# EAGLE library part 691127700006B (library WR-TBL Wire Protector)
WR-TBL Serie 127 B - 5.00 mm Vertical Entry w. stamping clamp KIND PROPERTIES Pitch 5 mm MATERIAL PROPERTIES Insulator Material PA66 Insulator Flammability Rating UL94 V-0 Insulator Color Green Contact Material Steel Contact Plating Zinc Terminal Screw Material Steel Terminal Screw Plating Zinc Wire Guard Material Steel over Zinc GENERAL INFORMATION Operating Temperature -40 up to +105 °C Compliance Lead free / RoHS ELECTRICAL PROPERTIES IR cULus 20 A Working Voltage [cULus] 300 V (AC) Withstanding Voltage [cULus] 2000 V (AC) Contact Resistance [cULus] 20 mΩ MECHANICAL PROPERTIES Wire Strip Length 9 (mm) Screw M4 Solid Wire Section (AWG) 30 to 12 (AWG) Solid Wire Section (Metric) 0.05 to 3.31 (mm²) Stranded Wire Section (AWG) 30 to 12 (AWG) Stranded Wire Section (Metric) 0.05 to 3.31 (mm²) CERTIFICATION UL Approval E315414 PACKAGING PROPERTIES Packaging Box <https://katalog.we-online.com/media/images/v2/o58312v209%20Family_WR-TBL_Screw_PressureClamp_6911277000xxB.jpg> Details see: https://katalog.we-online.com/en/em/TBL_5_00_127B_6911277000XXB Updated by Ella Wu 2019-11-08 2019(C) Wurth Elektronik
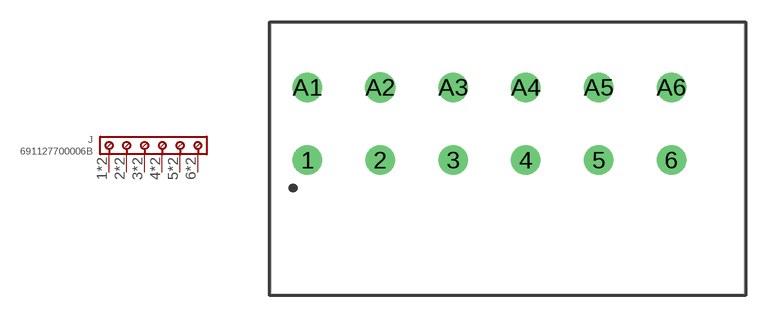
[diagram p48: symbol with the pads of 691127700006B; footprint 691127700006B]

Designator prefix J

## 691127700006B (DATASHEET-URL: https://www.we-online.com/catalog/datasheet/691127700006B.pdf; IR-UL: 20A; MOUNT: THT; PART-NUMBER: 691127700006B; PINS: 6; PITCH: 5mm; TYPE: Horizontal; VALUE: 691127700006B; WIRE: 30 to 12 (AWG) 0.05 to 3.31 (mm²); WORKING-VOLTAGE-UL: 300V(AC))  [691127700006B]
1  1  pas
2  2  pas
3  3  pas
4  4  pas
5  5  pas
6  6  pas
A1  1  pas
A2  2  pas
A3  3  pas
A4  4  pas
A5  5  pas
A6  6  pas

## Footprint 691127700006B (pad centres in mm)
WR-TBL Serie 127 B - 5.00 mm Vertical Entry w. stamping clamp Max Height = 19.5mm , Pitch 5mm , 6 Pins
drill 1.35: 1 -12.5,-2.5; 2 -7.5,-2.5; 3 -2.5,-2.5; 4 2.5,-2.5; 5 7.5,-2.5; 6 12.5,-2.5; A1 -12.5,2.5; A3 -2.5,2.5; A4 2.5,2.5; A5 7.5,2.5; A6 12.5,2.5
drill 1.4: A2 -7.5,2.5